# Altium schematic symbol library parameters.SchLib: 1 symbol
Pins are listed as number, name and electrical type; pins without a type are passive.

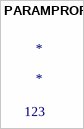
[diagram p0: symbol PARAMPROPS]

## PARAMPROPS
designator *  TestParam: 123
Rule: UNIONINDEX=0|RULEKIND=Width|NETSCOPE=AnyNet|LAYERKIND=SameLayer|NAME=Schematic Width Constraint|MAXLIMIT=10mil|MINLIMIT=10mil|PREFEREDWIDTH=10mil|UNIT=Imperial